# Altium footprint library Adafruit PyGamer.PCBLIB: 205 footprints (part 2 of 13)
Each footprint in its own frame and in the unit in brackets; x right, y up, seen from the top. Pads: shape width x height; smd on the part's side, far side on the other; paste and mask are expansions set on the pad; w line width, h text height; cw(c..) or ccw(c..) is an arc to the next point about the centre after c.
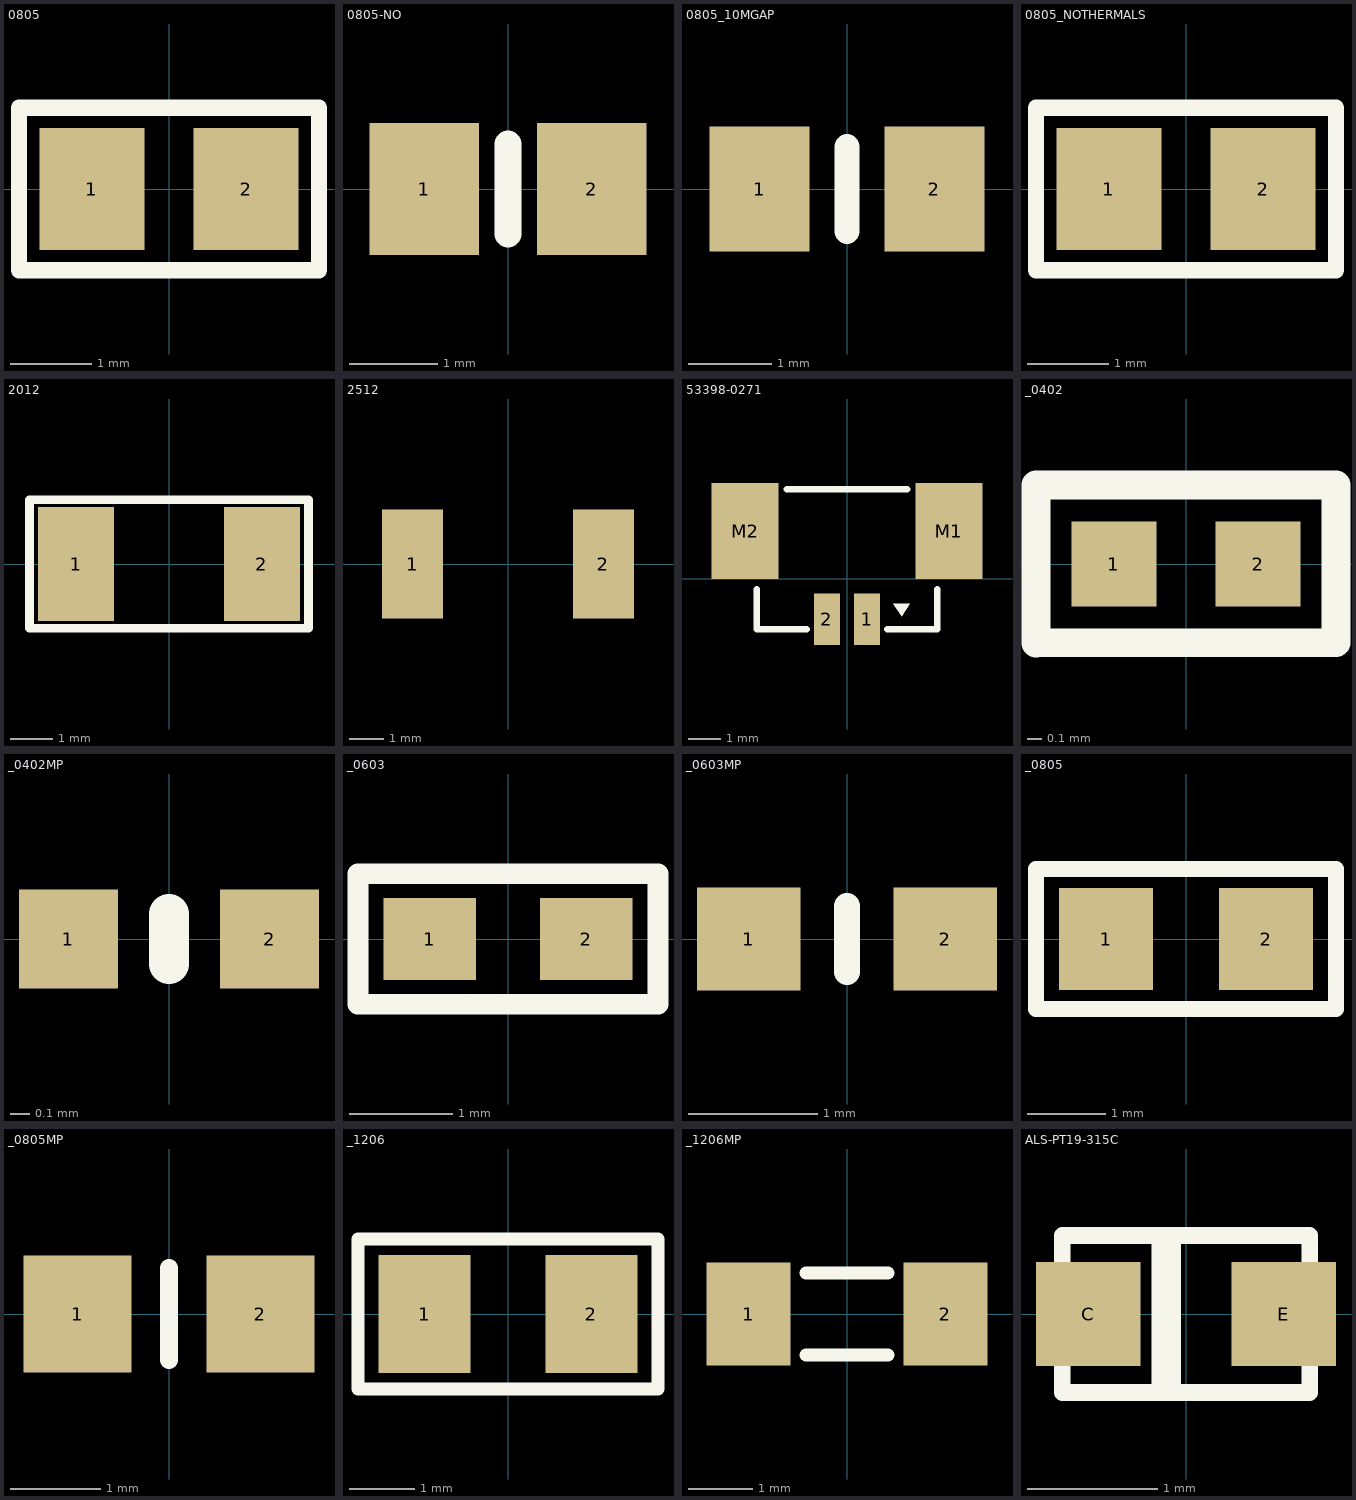
[diagram p1: the footprints below, top view; thin cyan lines are the x and y axes]

## 0805 [mil]
pads (2):
  rect 51.18x59.06 smd: 1(-37.4,0) 2(37.4,0)
Top Overlay:
  lines w8: -72.83,-39.37 72.83,-39.37 72.83,39.37 -72.83,39.37 -72.83,-39.37
Bottom Overlay:
  region: -43,-28.5 -43,28.59 -13.47,28.59 -13.47,-28.5
  region: 14,-28.5 14,28.59 43.53,28.59 43.53,-28.5
  lines w4: -15,25.98 15,25.98 ; -14.02,-25.98 15,-25.98

## 0805-NO [mil]
pads (2):
  rect 48.82x59.06 smd: 1(-37.4,0) 2(37.4,0)
Top Overlay:
  lines w12: 0,-20 0,20
Bottom Overlay:
  region: -43,-28.5 -43,28.59 -13.47,28.59 -13.47,-28.5
  region: 14,-28.5 14,28.59 43.53,28.59 43.53,-28.5
  lines w4: -15,25.98 15,25.98 ; -14.02,-25.98 15,-25.98

## 0805_10MGAP [mil]
pads (2):
  rect 47.24x59.06 smd: 1(-41.34,0) 2(41.34,0)
Top Overlay:
  lines w12: 0,-20 0,20
Bottom Overlay:
  region: -43,-28.5 -43,28.59 -13.47,28.59 -13.47,-28.5
  region: 14,-28.5 14,28.59 43.53,28.59 43.53,-28.5
  lines w4: -15,25.98 15,25.98 ; -14.02,-25.98 15,-25.98

## 0805_NOTHERMALS [mil]
pads (2):
  rect 51.18x59.06 smd: 1(-37.4,0) 2(37.4,0)
Top Overlay:
  lines w8: -72.83,-39.37 72.83,-39.37 72.83,39.37 -72.83,39.37 -72.83,-39.37
Bottom Overlay:
  region: -43,-28.5 -43,28.59 -13.47,28.59 -13.47,-28.5
  region: 14,-28.5 14,28.59 43.53,28.59 43.53,-28.5
  lines w4: -15,25.98 15,25.98 ; -14.02,-25.98 15,-25.98

## 2012 [mil]
pads (2):
  rect 70.87x106.3 smd: 1(-86.61,0) 2(86.61,0)
Top Overlay:
  lines w8: -130,-60 130,-60 130,60 -130,60 -130,-60
Bottom Overlay:
  region: -98,-52 -98,52.33 -64.54,52.33 -64.54,-52
  region: 65,-52 65,52.33 98.46,52.33 98.46,-52
  lines w8: -65.43,49.02 65.43,49.02 ; -64.45,-49.02 66.42,-49.02

## 2512 [mil]
pads (2):
  rect 70.87x125.98 smd: 1(-110.24,0) 2(110.24,0)
Bottom Overlay:
  region: -126,-61 -126,61.05 -92.54,61.05 -92.54,-61
  region: 93,-61 93,61.05 126.46,61.05 126.46,-61
  lines w8: -92.99,-57.99 93.98,-57.99 ; -92.99,57.99 93.98,57.99

## 53398-0271 [mil]
pads (4):
  rect 31.5x62.99 smd: 1(24.61,-50) 2(-24.61,-50)
  rect 82.68x118.11 smd: M1(125.39,58.27) M2(-125.39,58.27)
Top Overlay:
  region: 57.13,-31.18 77.13,-31.18 67.13,-46.18
  lines w8: -110.73,-13.09 -110.73,-62.31 -49.21,-62.31 ; -73.82,109.94 73.82,109.94 ; 49.21,-62.31 110.73,-62.31 110.73,-13.09
Bottom Overlay:
  region: -30.76,36.12 -30.76,66.88 -18.46,66.88 -18.46,36.12
  region: 18.46,36.12 18.46,66.88 30.76,66.88 30.76,36.12
  lines w2: -6.15,91.49 -86.12,91.49 ; 6.15,91.49 43.06,91.49 ; -98.43,-25.39 -98.43,-0.79 ; -98.43,-25.39 -98.43,-50 98.43,-50 98.43,-25.39 ; -98.43,-25.39 -67.67,-25.39 -67.67,-6.94 ; -98.43,-0.79 -147.64,-0.79 -147.64,97.64 -6.15,97.64 ; -98.43,-0.79 -86.12,-0.79 ; -86.12,-0.79 -73.82,-0.79 ; -86.12,-0.79 -86.12,23.82 ; -86.12,23.82 -86.12,60.73 ; -86.12,23.82 -73.82,23.82 -73.82,-0.79 ; -86.12,60.73 -86.12,91.49 ; -86.12,60.73 -73.82,60.73 -73.82,85.33 ; -86.12,91.49 -73.82,85.33 ; -73.82,-0.79 -67.67,-0.79 -67.67,-6.94 ; -73.82,-0.79 -73.82,-0.79 ; -73.82,-0.79 -73.82,-6.94 -67.67,-6.94 ; -73.82,85.33 -73.82,85.33 ; -73.82,85.33 -6.15,85.33 ; -6.15,85.33 6.15,85.33 ; -6.15,85.33 -6.15,97.64 ; -6.15,97.64 6.15,97.64 ; 6.15,85.33 43.06,85.33 ; 6.15,85.33 6.15,97.64 ; 6.15,97.64 43.06,97.64 ; 43.06,85.33 55.37,85.33 ; 43.06,85.33 43.06,91.49 ; 43.06,91.49 43.06,97.64 ; 43.06,97.64 55.37,97.64 ; 55.37,85.33 73.82,85.33 ; 55.37,85.33 55.37,91.49 ; 55.37,91.49 55.37,97.64 ; 55.37,91.49 86.12,91.49 ; 55.37,97.64 147.64,97.64 147.64,-0.79 98.43,-0.79 ; 67.67,-6.94 67.67,-0.79 73.82,-0.79 ; 67.67,-6.94 67.67,-25.39 98.43,-25.39 ; 67.67,-6.94 73.82,-6.94 73.82,-0.79 ; 73.82,-0.79 86.12,-0.79 ; 73.82,-0.79 73.82,-0.79 ; 73.82,-0.79 73.82,23.82 86.12,23.82 ; 73.82,85.33 73.82,85.33 ; 73.82,85.33 73.82,60.73 86.13,60.73 ; 73.82,85.33 86.12,91.49 ; 86.12,-0.79 86.12,23.82 ; 86.12,-0.79 98.43,-0.79 ; 86.12,23.82 86.13,60.73 ; 86.12,91.49 86.13,91.49 86.13,60.73 ; 98.43,-25.39 98.43,-0.79 ; 96.21,15.7 139.28,15.7 139.28,83.37 96.21,83.37 96.21,15.7
  text "1" at 108.52,34.15 h49.6

## _0402 [mil]
pads (2):
  rect 23.62x23.62 smd: 1(-20,0) 2(20,0)
Top Overlay:
  lines w8: -41.63,-21.88 41.63,-21.87 41.63,21.88 -41.63,21.88 -41.63,-21.88
Bottom Overlay:
  region: 9.84,-9.84 9.84,9.84 19.69,9.84 19.69,-9.84
  region: -19.69,-9.84 -19.69,9.84 -9.84,9.84 -9.84,-9.84
  lines w4: -9.65,-6.85 9.65,-6.85 ; -9.65,6.85 9.65,6.85

## _0402MP [mil]
pads (2):
  rect 19.69x19.69 smd: 1(-20,0) 2(20,0)
Top Overlay:
  lines w8: 0,-5 0,5
Bottom Overlay:
  region: -19.69,-9.84 -19.69,9.84 -10,9.84 -10,-9.84
  region: 10.19,-9.84 10.19,9.84 19.69,9.84 19.69,-9.84
  lines w4: -9.65,-6.85 9.65,-6.85 ; -9.65,6.85 9.65,6.85

## _0603 [mil]
pads (2):
  rect 35.43x31.5 smd: 1(-30,0) 2(30,0)
Top Overlay:
  lines w8: -57.5,-25 57.5,-25 57.5,25 -57.5,25 -57.5,-25
Bottom Overlay:
  region: 17,-15.75 17,15.75 33,15.75 33,-15.75
  region: -33,-15.75 -33,15.75 -17,15.75 -17,-15.75
  lines w4: -17.01,-12.05 17.01,-12.05 ; -17.01,12.05 17.01,12.05

## _0603MP [mil]
pads (2):
  rect 31.5x31.5 smd: 1(-30,0) 2(30,0)
Top Overlay:
  lines w8: 0,-10 0,10
Bottom Overlay:
  region: 17,-15.75 17,15.75 31.5,15.75 31.5,-15.75
  region: -31.5,-15.75 -31.5,15.75 -17,15.75 -17,-15.75
  lines w4: -17.01,-12.05 17.01,-12.05 ; -17.01,12.05 17.01,12.05

## _0805 [mil]
pads (2):
  rect 47.24x51.18 smd: 1(-40,0) 2(40,0)
Top Overlay:
  lines w8: -75,-35 75,-35 75,35 -75,35 -75,-35
Bottom Overlay:
  region: 16,-25.59 16,25.59 41.59,25.59 41.59,-25.59
  region: -42,-25.59 -42,25.59 -16.41,25.59 -16.41,-25.59
  lines w4: -16.14,-23.03 16.14,-23.03 ; -16.14,23.03 16.14,23.03

## _0805MP [mil]
pads (2):
  rect 47.24x51.18 smd: 1(-40,0) 2(40,0)
Top Overlay:
  lines w8: 0,-20 0,20
Bottom Overlay:
  region: 16,-25.59 16,25.59 39.37,25.59 39.37,-25.59
  region: -39.37,-25.59 -39.37,25.59 -16.41,25.59 -16.41,-25.59
  lines w4: -20.08,-21.06 20.08,-21.06 ; -20.08,21.06 20.08,21.06

## _1206 [mil]
pads (2):
  rect 55.12x70.87 smd: 1(-50,0) 2(50,0)
Top Overlay:
  lines w8: -90,-45 90,-45 90,45 -90,45 -90,-45
Bottom Overlay:
  region: -66.5,-34.5 -66.5,34.5 -37.5,34.5 -37.5,-34.5
  region: 37.5,-34.5 37.5,34.5 66.5,34.5 66.5,-34.5
  lines w4: -38,-32 37.5,-32 ; -38,32 37.5,32

## _1206MP [mil]
pads (2):
  rect 51.18x62.99 smd: 1(-60,0) 2(60,0)
Top Overlay:
  lines w8: -25,-25 25,-25 ; -25,25 25,25
Bottom Overlay:
  region: -62.99,-31.5 -62.99,31.5 -35.43,31.5 -35.43,-31.5
  region: 62.99,31.5 62.99,-31.5 35.44,-31.5 35.44,31.5
  lines w4: -41.94,-28.06 41.44,-28.06 ; -41.94,28.06 41.44,28.06

## ALS-PT19-315C [mil]
pads (2):
  rect 31.5x31.5 smd: C(-29.53,0) E(29.53,0)
Top Overlay:
  lines w5: -7.87,-23.69 -3.94,-23.69 ; -7.87,-23.69 -37.4,-23.69 -37.4,23.69 -7.87,23.69 ; -7.87,-23.69 -7.87,23.69 ; -7.87,23.69 -3.94,23.69 ; -3.94,-23.69 37.4,-23.69 37.4,23.69 -3.94,23.69 ; -3.94,-23.69 -3.94,23.69
Bottom Overlay:
  lines w5: -33.46,-15.75 33.46,-15.75 33.46,15.75 -33.46,15.75 -33.46,-15.75
  text "C" at -19.69,0 h24.8
  text "E" at 23.62,0 h24.8